# EAGLE library part PE64904 (library RF)
Peregrine Digitally Tunable Capacitor 100-3000MHz
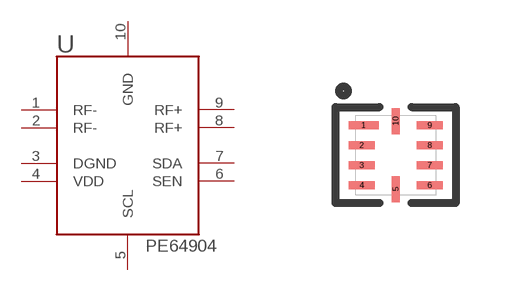
[diagram p2: symbol with the pads of 10QFN; footprint 10QFN]

Designator prefix U

## PE64904MLBB-Z (PARTNO: 01-100483-00)  [10QFN]
1  RF-
2  RF-
3  DGND  pwr
4  VDD  pwr
5  SCL  in
6  SEN  in
7  SDA  in
8  RF+
9  RF+
10  GND  pwr

## Footprint 10QFN (pad centres in mm)
10QFN designed for PE64904
smd 0.75 x 0.2: 1 -0.8,0.75
smd 0.65 x 0.2: 2 -0.85,0.25; 3 -0.85,-0.25; 4 -0.85,-0.75; 6 0.85,-0.75; 7 0.85,-0.25; 8 0.85,0.25; 9 0.85,0.75
smd 0.2 x 0.65: 5 0,-0.85; 10 0,0.85